# Altium footprint library TSOP62xx.PcbLib: 1 footprints
Each footprint in its own frame and in the unit in brackets; x right, y up, seen from the top. Pads: shape width x height; smd on the part's side, far side on the other; paste and mask are expansions set on the pad; w line width, h text height; cw(c..) or ccw(c..) is an arc to the next point about the centre after c.
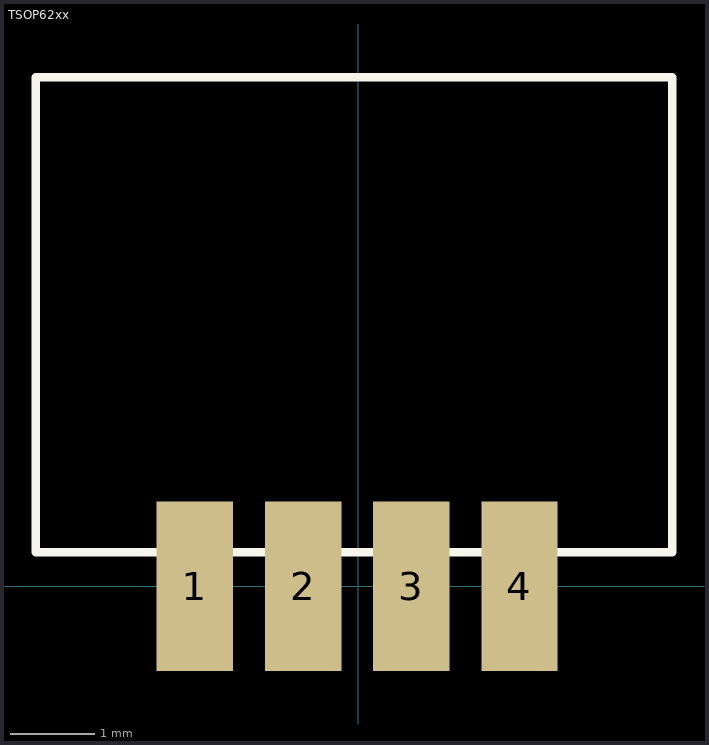
[diagram p0: the footprint, top view; thin cyan lines are the x and y axes]

## TSOP62xx [mm]
pads (4):
  rect 0.9x2 smd: 1(-1.925,0) 2(-0.65,0) 3(0.625,0) 4(1.9,0)
Top Overlay:
  lines w0.1: -3.8,0.4 -3.8,6 3.7,6 3.7,0.4 -3.8,0.4
3D body: height 4, standoff 0, extent -3.8,0.425 3.7,6.025